# Altium schematic symbol library SIT8008AC-73-33E-52D.SchLib: 2 symbols
Pins are listed as number, name and electrical type; pins without a type are passive.

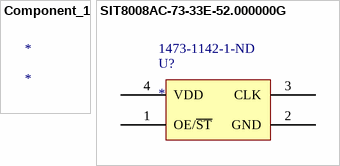
[diagram p0: symbols Component_1 to SIT8008AC-73-33E-52.000000G]

## Component_1
designator *

## SIT8008AC-73-33E-52.000000G
designator U?  Supplier Part Number 1: 1473-1142-1-ND
52MHz HCMOS, LVCMOS MEMS (Silicon) Oscillator Surface Mount 3.3V 4.5mA Enable/Disable; Manufacturer: SiTime; Manufacturer Part Number: SIT8008AC-73-33E-52.000000G; Frequency Stability: 50ppm; Supplier 1: Digikey; Stock 1: 136; Pricing 1: 1=1.2, 10=1.061, 50=0.992, 100=0.8767 (USD); Case/Package: SMD/SMT; Min Operating Temperature: -20°C; Max Operating Temperature: 70°C; Packaging: Tape and Reel; Frequency: 52MHz; Max Supply Current: 4.5mA; Length: 0.079inch; Height: 0.031inch; Width: 0.063inch; ComponentLink1URL: https://datasheet.ciiva.com/29630/sit8008-datasheet-29630364.pdf; ComponentLink1Description: https://datasheet.ciiva.com/29630/sit8008-datasheet-29630364.pdf; ComponentLink2URL: https://datasheet.ciiva.com/29630/sit8008-datasheet-29630365.pdf; ComponentLink2Description: https://datasheet.ciiva.com/29630/sit8008-datasheet-29630365.pdf; ComponentLink3URL: https://datasheet.ciiva.com/29630/sit8008-datasheet-29630366.pdf; ComponentLink3Description: https://datasheet.ciiva.com/29630/sit8008-datasheet-29630366.pdf
footprint DFN132P200X80-4N (DFN, 4-Leads, Body 1.60x2.00mm, Pitch 1.32mm, IPC Medium Density)
pins: 1 OE/~{ST}, 2 GND, 3 CLK, 4 VDD